# Altium footprint library Touch Spring.PcbLib: 3 footprints
Each footprint in its own frame and in the unit in brackets; x right, y up, seen from the top. Pads: shape width x height; smd on the part's side, far side on the other; paste and mask are expansions set on the pad; w line width, h text height; cw(c..) or ccw(c..) is an arc to the next point about the centre after c.
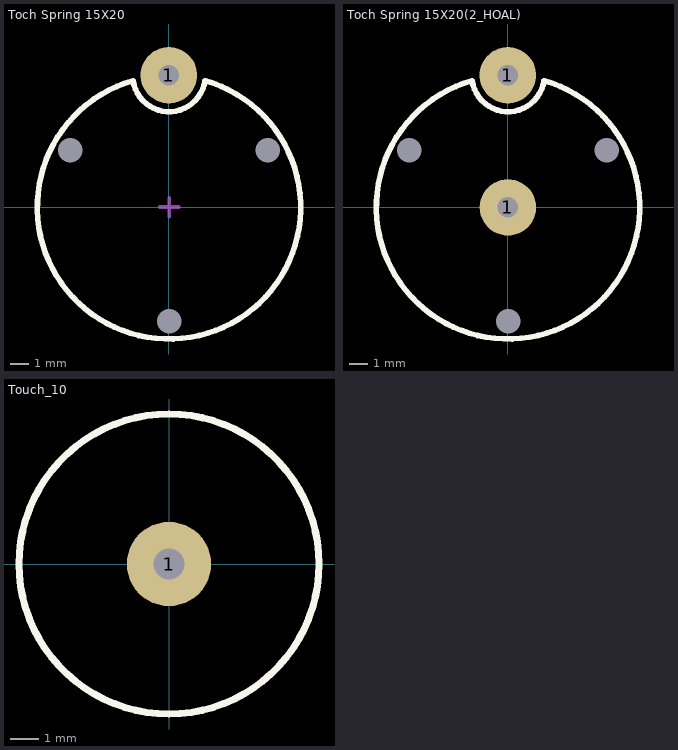
[diagram p0: the footprints below, top view; thin cyan lines are the x and y axes]

## Toch Spring 15X20 [mm]
pads (4):
  round 0 hole 1.3: 0(-5.232,3.048) 0(0.016,-6.046) 0(5.267,3.044)
  round 3 hole 1.1: 1(0.001,7.023)
Top Overlay:
  lines w0.3: 1.922,6.735 cw(c0.01,7.018) -1.902,6.737 ccw(c0.008,0.003) 1.933,6.733
Mechanical 15:
  lines w0.2: -0.484,0.014 0.516,0.014 ; 0.016,-0.486 0.016,0.514
3D body "Spring.SLDPRT": height 21.6, standoff -4.6, extent -7.358,-7.493 7.612,7.477

## Toch Spring 15X20(2_HOAL) [mm]
pads (5):
  round 0 hole 1.3: 0(-5.232,3.048) 0(0.016,-6.046) 0(5.267,3.044)
  round 3 hole 1.1: 1(0,0) 1(0.001,7.023)
Top Overlay:
  lines w0.3: 1.922,6.735 cw(c0.01,7.018) -1.902,6.737 ccw(c0.008,0.003) 1.933,6.733
Mechanical 15:
  lines w0.2: -0.484,0.014 0.516,0.014 ; 0.016,-0.486 0.016,0.514
3D body "Spring.SLDPRT": height 21.6, standoff -4.6, extent -7.358,-7.493 7.612,7.477

## Touch_10 [mm]
pads (1):
  round 3 hole 1.1: 1(0,0)
Top Overlay:
  circle w0.254: c0,0 r5.336
3D body "User Library-TOUCH_SPRING.STEP": height 6.85, standoff -1.5, extent -3.65,-3.65 3.649,3.65